# EAGLE library part QS3245 (library dan-idt)
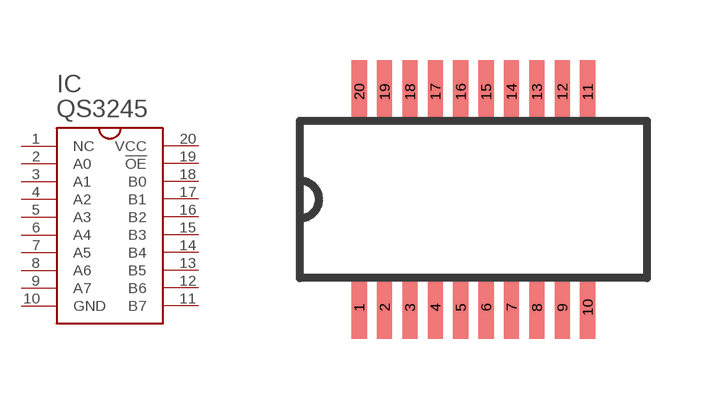
[diagram p1: symbol with the pads of QSOP20; footprint QSOP20]

Designator prefix IC

## QS3245  [QSOP20]
1  NC  nc
2  A0
3  A1
4  A2
5  A3
6  A4
7  A5
8  A6
9  A7
10  GND  pas
11  B7
12  B6
13  B5
14  B4
15  B3
16  B2
17  B1
18  B0
19  !OE  in
20  VCC  pas

## Footprint QSOP20 (pad centres in mm)
QSOP20 From: http://www.idt.com/?app=packaging&partID=QS3245QG8&packageID=PCG20&mktseg=IDT
smd 0.381 x 1.587: 1 -2.857,-2.699; 2 -2.223,-2.699; 3 -1.587,-2.699; 4 -0.953,-2.699; 5 -0.318,-2.699; 6 0.318,-2.699; 7 0.953,-2.699; 8 1.587,-2.699; 9 2.223,-2.699; 10 2.857,-2.699; 11 2.857,2.699; 12 2.223,2.699; 13 1.587,2.699; 14 0.953,2.699; 15 0.318,2.699; 16 -0.318,2.699; 17 -0.953,2.699; 18 -1.587,2.699; 19 -2.223,2.699; 20 -2.857,2.699